# Altium footprint library son8p.PcbLib: 1 footprints
Each footprint in its own frame and in the unit in brackets; x right, y up, seen from the top. Pads: shape width x height; smd on the part's side, far side on the other; paste and mask are expansions set on the pad; w line width, h text height; cw(c..) or ccw(c..) is an arc to the next point about the centre after c.
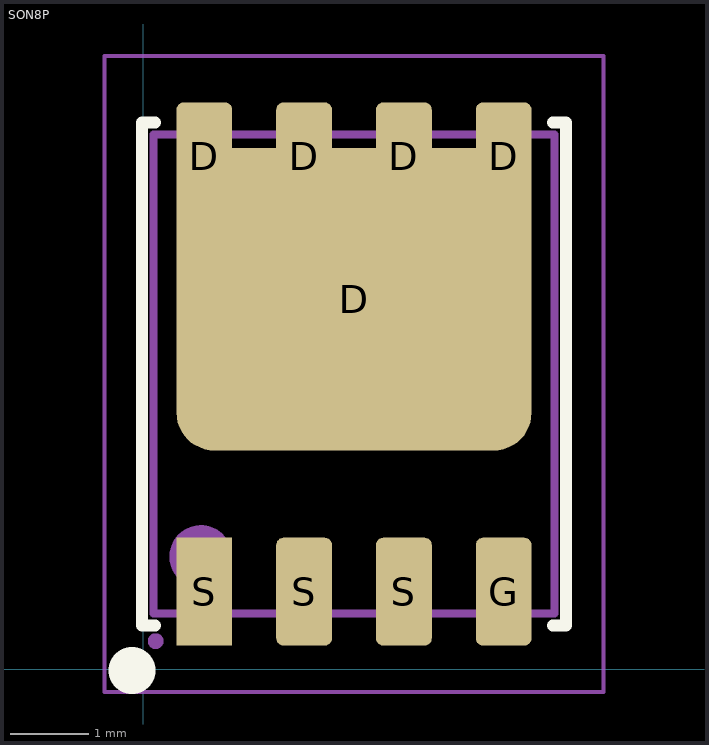
[diagram p0: the footprint, top view; thin cyan lines are the x and y axes]

## SON8P [mm]
pads (9):
  rrect25% 0.71x1.372 smd paste-10: D(0.779,6.525) D(2.049,6.525) D(3.319,6.525) D(4.589,6.525)
  rrect25% 4.52x3.85 smd paste-10: D(2.684,4.705)
  rrect25% 0.71x1.372 smd paste-0.002: G(4.589,0.985) S(2.049,0.985) S(3.319,0.985)
  rect 0.71x1.372 smd paste-0.002: S(0.779,0.985)
Top Overlay:
  circle w0.6: c-0.141,-0.02 r0
  lines w0.15: 0.154,0.555 -0.016,0.555 -0.016,6.955 0.154,6.955 ; 5.214,0.555 5.384,0.555 5.384,6.955 5.214,6.955
Top Paste:
  region: 2.509,4.78 2.509,6.33 0.459,6.33 0.459,4.78
  region: 2.507,2.83 2.507,4.48 0.457,4.48 0.457,2.83
  region: 4.911,2.83 4.911,4.48 2.861,4.48 2.861,2.83
  region: 4.909,4.78 4.909,6.33 2.859,6.33 2.859,4.78
  region: 4.244,6.668 4.244,7.115 4.244,7.133 4.258,7.166 4.283,7.191 4.316,7.205 4.334,7.205 4.844,7.205 4.862,7.205 4.895,7.191 4.92,7.166 4.934,7.133 4.934,7.116 4.934,6.691 4.934,6.674 4.921,6.642 4.897,6.618 4.865,6.605 4.848,6.605 4.307,6.605 4.295,6.605 4.271,6.615 4.254,6.632 4.244,6.655
  region: 2.974,6.668 2.974,7.115 2.974,7.133 2.988,7.166 3.013,7.191 3.046,7.205 3.064,7.205 3.574,7.205 3.592,7.205 3.625,7.191 3.65,7.166 3.664,7.133 3.664,7.116 3.664,6.691 3.664,6.674 3.651,6.642 3.627,6.618 3.595,6.605 3.578,6.605 3.037,6.605 3.025,6.605 3.001,6.615 2.984,6.632 2.974,6.655
  region: 1.704,6.668 1.704,7.115 1.704,7.133 1.718,7.166 1.743,7.191 1.776,7.205 1.794,7.205 2.304,7.205 2.322,7.205 2.355,7.191 2.38,7.166 2.394,7.133 2.394,7.116 2.394,6.691 2.394,6.674 2.381,6.642 2.357,6.618 2.325,6.605 2.308,6.605 1.767,6.605 1.755,6.605 1.731,6.615 1.714,6.632 1.704,6.655
  region: 0.434,6.668 0.434,7.115 0.434,7.133 0.448,7.166 0.473,7.191 0.506,7.205 0.524,7.205 1.034,7.205 1.052,7.205 1.085,7.191 1.11,7.166 1.124,7.133 1.124,7.116 1.124,6.691 1.124,6.674 1.111,6.642 1.087,6.618 1.055,6.605 1.038,6.605 0.497,6.605 0.485,6.605 0.461,6.615 0.444,6.632 0.434,6.655
  lines w0.05: 0.459,2.83 0.459,4.48 2.509,4.48 2.509,2.83 0.459,2.83 ; 0.459,4.78 0.459,6.33 2.509,6.33 2.509,4.78 0.459,4.78 ; 2.859,2.83 2.859,4.48 4.909,4.48 4.909,2.83 2.859,2.83 ; 2.859,4.78 4.909,4.78 4.909,6.33 2.859,6.33 2.859,4.78
Top Comment:
  text ".Comment" at 4.2,4.3 h1.2
Top Designator:
  text ".Designator" at 1.9,4.4 h1.2
Top Component Outline:
  circle w0.1: c0.159,0.355 r0.05
  circle w0.4: c0.734,1.43 r0.2
  lines w0.1: 0.134,0.705 0.134,6.805 5.234,6.805 5.234,0.705 0.134,0.705
Top Courtyard (Mech15):
  lines w0.05: -0.491,-0.295 -0.491,7.805 5.859,7.805 5.859,-0.295 -0.491,-0.295
  lines w0.1: 2.184,3.755 3.184,3.755 ; 2.684,3.255 2.684,4.255
3D body "SON_5x6.step": height 1.1, standoff 0, extent 0.109,0.68 5.259,6.83